# EAGLE library part XCV300ES_FG456 (library xilinx-xcv)
xcv300es_fg456 edit this description Auto generated by make-symbol-device-package-bsdl.ulp Rev. 26 Source: xcv300es_fg456.bsd
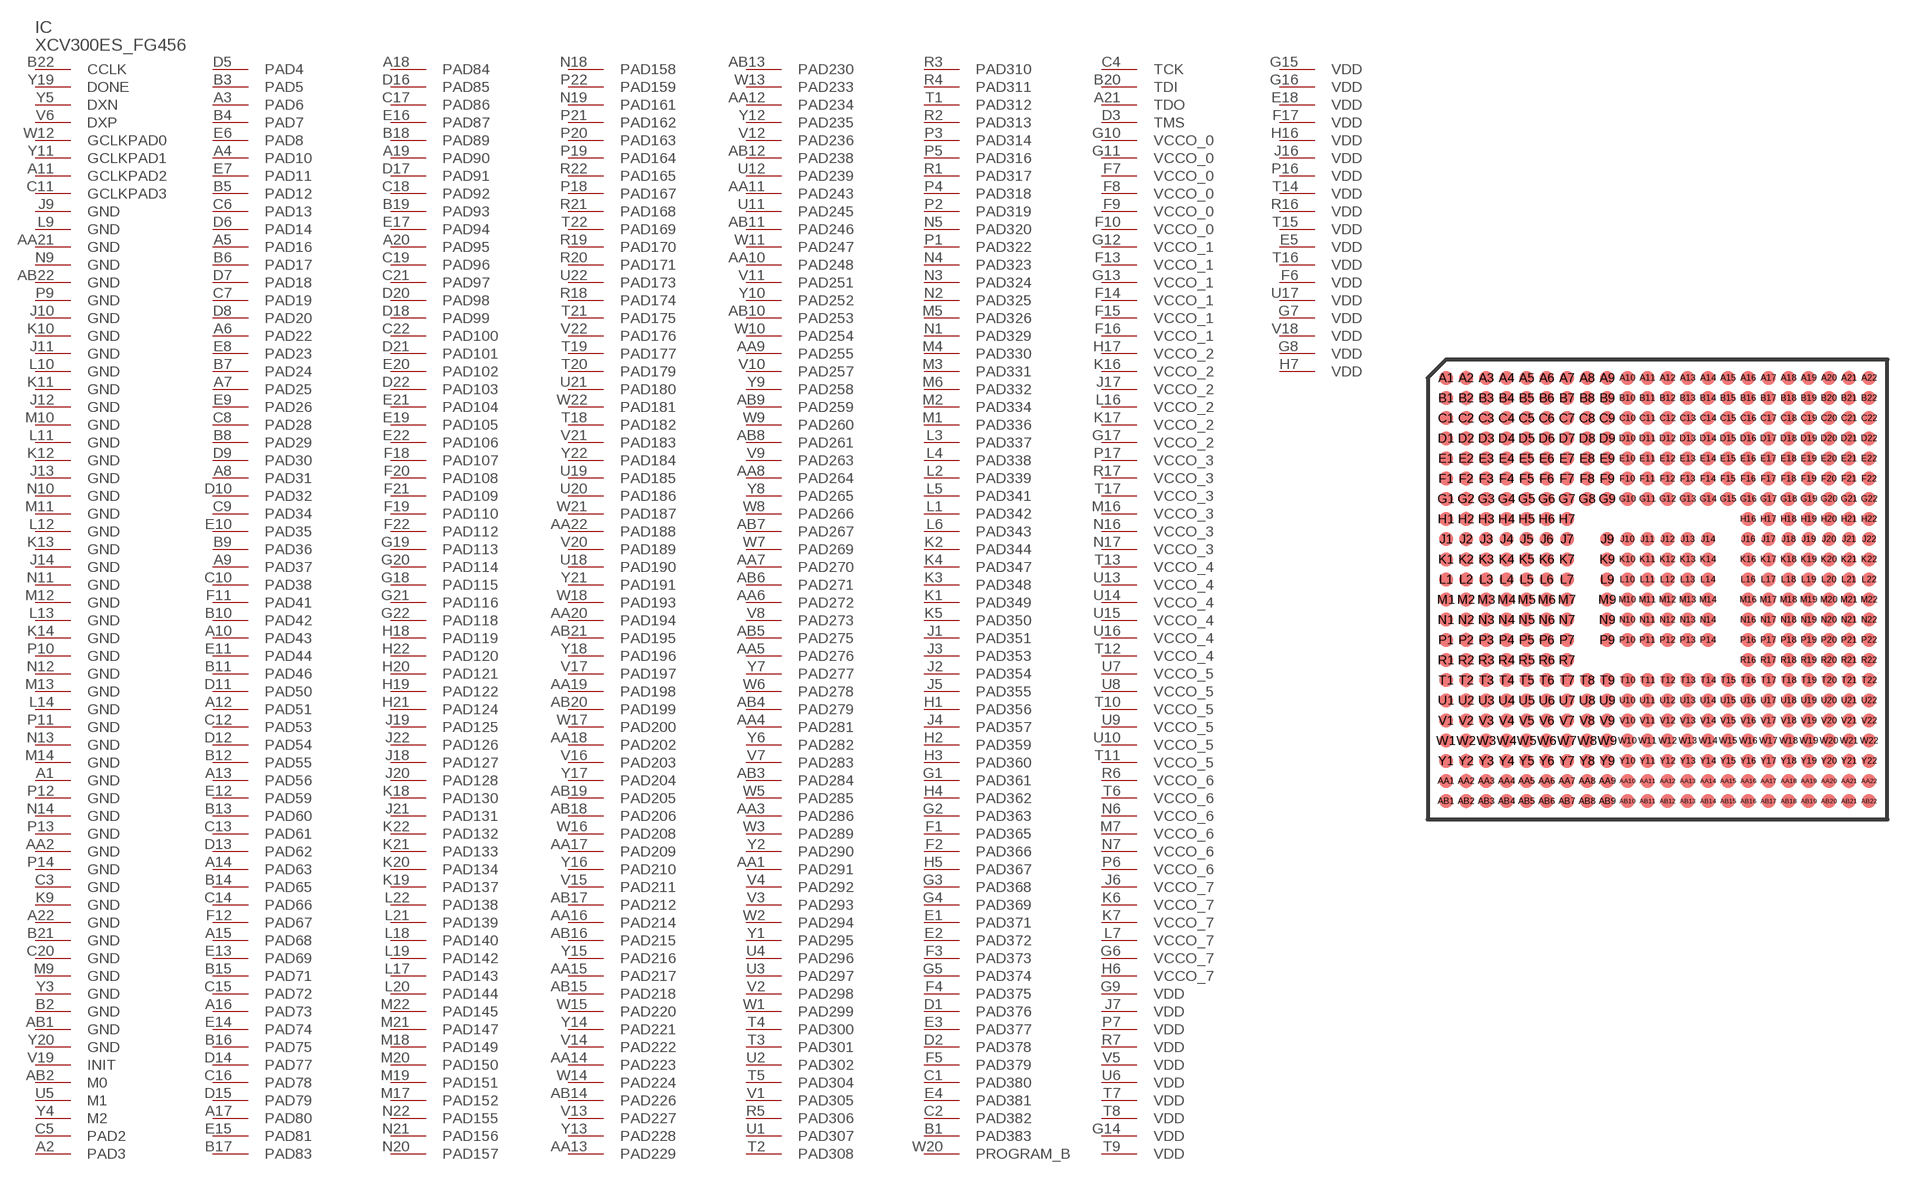
[diagram p92: symbol with the pads of FG456; footprint FG456]

Designator prefix IC

## XCV300ES_FG456 (OC_FARNELL: unknown; OC_NEWARK: unknown)  [FG456]
A1  GND  pwr
A2  PAD3
A3  PAD6
A4  PAD10
A5  PAD16
A6  PAD22
A7  PAD25
A8  PAD31
A9  PAD37
A10  PAD43
A11  GCLKPAD2  in
A12  PAD51
A13  PAD56
A14  PAD63
A15  PAD68
A16  PAD73
A17  PAD80
A18  PAD84
A19  PAD90
A20  PAD95
A21  TDO  out
A22  GND  pwr
AA1  PAD291
AA2  GND  pwr
AA3  PAD286
AA4  PAD281
AA5  PAD276
AA6  PAD272
AA7  PAD270
AA8  PAD264
AA9  PAD255
AA10  PAD248
AA11  PAD243
AA12  PAD234
AA13  PAD229
AA14  PAD223
AA15  PAD217
AA16  PAD214
AA17  PAD209
AA18  PAD202
AA19  PAD198
AA20  PAD194
AA21  GND  pwr
AA22  PAD188
AB1  GND  pwr
AB2  M0  in
AB3  PAD284
AB4  PAD279
AB5  PAD275
AB6  PAD271
AB7  PAD267
AB8  PAD261
AB9  PAD259
AB10  PAD253
AB11  PAD246
AB12  PAD238
AB13  PAD230
AB14  PAD226
AB15  PAD218
AB16  PAD215
AB17  PAD212
AB18  PAD206
AB19  PAD205
AB20  PAD199
AB21  PAD195
AB22  GND  pwr
B1  PAD383
B2  GND  pwr
B3  PAD5
B4  PAD7
B5  PAD12
B6  PAD17
B7  PAD24
B8  PAD29
B9  PAD36
B10  PAD42
B11  PAD46
B12  PAD55
B13  PAD60
B14  PAD65
B15  PAD71
B16  PAD75
B17  PAD83
B18  PAD89
B19  PAD93
B20  TDI  in
B21  GND  pwr
B22  CCLK
C1  PAD380
C2  PAD382
C3  GND  pwr
C4  TCK  in
C5  PAD2
C6  PAD13
C7  PAD19
C8  PAD28
C9  PAD34
C10  PAD38
C11  GCLKPAD3  in
C12  PAD53
C13  PAD61
C14  PAD66
C15  PAD72
C16  PAD78
C17  PAD86
C18  PAD92
C19  PAD96
C20  GND  pwr
C21  PAD97
C22  PAD100
D1  PAD376
D2  PAD378
D3  TMS  in
D5  PAD4
D6  PAD14
D7  PAD18
D8  PAD20
D9  PAD30
D10  PAD32
D11  PAD50
D12  PAD54
D13  PAD62
D14  PAD77
D15  PAD79
D16  PAD85
D17  PAD91
D18  PAD99
D20  PAD98
D21  PAD101
D22  PAD103
E1  PAD371
E2  PAD372
E3  PAD377
E4  PAD381
E5  VDD  pwr
E6  PAD8
E7  PAD11
E8  PAD23
E9  PAD26
E10  PAD35
E11  PAD44
E12  PAD59
E13  PAD69
E14  PAD74
E15  PAD81
E16  PAD87
E17  PAD94
E18  VDD  pwr
E19  PAD105
E20  PAD102
E21  PAD104
E22  PAD106
F1  PAD365
F2  PAD366
F3  PAD373
F4  PAD375
F5  PAD379
F6  VDD  pwr
F7  VCCO_0  pwr
F8  VCCO_0  pwr
F9  VCCO_0  pwr
F10  VCCO_0  pwr
F11  PAD41
F12  PAD67
F13  VCCO_1  pwr
F14  VCCO_1  pwr
F15  VCCO_1  pwr
F16  VCCO_1  pwr
F17  VDD  pwr
F18  PAD107
F19  PAD110
F20  PAD108
F21  PAD109
F22  PAD112
G1  PAD361
G2  PAD363
G3  PAD368
G4  PAD369
G5  PAD374
G6  VCCO_7  pwr
G7  VDD  pwr
G8  VDD  pwr
G9  VDD  pwr
G10  VCCO_0  pwr
G11  VCCO_0  pwr
G12  VCCO_1  pwr
G13  VCCO_1  pwr
G14  VDD  pwr
G15  VDD  pwr
G16  VDD  pwr
G17  VCCO_2  pwr
G18  PAD115
G19  PAD113
G20  PAD114
G21  PAD116
G22  PAD118
H1  PAD356
H2  PAD359
H3  PAD360
H4  PAD362
H5  PAD367
H6  VCCO_7  pwr
H7  VDD  pwr
H16  VDD  pwr
H17  VCCO_2  pwr
H18  PAD119
H19  PAD122
H20  PAD121
H21  PAD124
H22  PAD120
J1  PAD351
J2  PAD354
J3  PAD353
J4  PAD357
J5  PAD355
J6  VCCO_7  pwr
J7  VDD  pwr
J9  GND  pwr
J10  GND  pwr
J11  GND  pwr
J12  GND  pwr
J13  GND  pwr
J14  GND  pwr
J16  VDD  pwr
J17  VCCO_2  pwr
J18  PAD127
J19  PAD125
J20  PAD128
J21  PAD131
J22  PAD126
K1  PAD349
K2  PAD344
K3  PAD348
K4  PAD347
K5  PAD350
K6  VCCO_7  pwr
K7  VCCO_7  pwr
K9  GND  pwr
K10  GND  pwr
K11  GND  pwr
K12  GND  pwr
K13  GND  pwr
K14  GND  pwr
K16  VCCO_2  pwr
K17  VCCO_2  pwr
K18  PAD130
K19  PAD137
K20  PAD134
K21  PAD133
K22  PAD132
L1  PAD342
L2  PAD339
L3  PAD337
L4  PAD338
L5  PAD341
L6  PAD343
L7  VCCO_7  pwr
L9  GND  pwr
L10  GND  pwr
L11  GND  pwr
L12  GND  pwr
L13  GND  pwr
L14  GND  pwr
L16  VCCO_2  pwr
L17  PAD143
L18  PAD140
L19  PAD142
L20  PAD144
L21  PAD139
L22  PAD138
M1  PAD336
M2  PAD334
M3  PAD331
M4  PAD330
M5  PAD326
M6  PAD332
M7  VCCO_6  pwr
M9  GND  pwr
M10  GND  pwr
M11  GND  pwr
M12  GND  pwr
M13  GND  pwr
M14  GND  pwr
M16  VCCO_3  pwr
M17  PAD152
M18  PAD149
M19  PAD151
M20  PAD150
M21  PAD147
M22  PAD145
N1  PAD329
N2  PAD325
N3  PAD324
N4  PAD323
N5  PAD320
N6  VCCO_6  pwr
N7  VCCO_6  pwr
N9  GND  pwr
N10  GND  pwr
N11  GND  pwr
N12  GND  pwr
N13  GND  pwr
N14  GND  pwr
N16  VCCO_3  pwr
N17  VCCO_3  pwr
N18  PAD158
N19  PAD161
N20  PAD157
N21  PAD156
N22  PAD155
P1  PAD322
P2  PAD319
P3  PAD314
P4  PAD318
P5  PAD316
P6  VCCO_6  pwr
P7  VDD  pwr
P9  GND  pwr
P10  GND  pwr
P11  GND  pwr
P12  GND  pwr
P13  GND  pwr
P14  GND  pwr
P16  VDD  pwr
P17  VCCO_3  pwr
P18  PAD167
P19  PAD164
P20  PAD163
P21  PAD162
P22  PAD159
R1  PAD317
R2  PAD313
R3  PAD310
R4  PAD311
R5  PAD306
R6  VCCO_6  pwr
R7  VDD  pwr
R16  VDD  pwr
R17  VCCO_3  pwr
R18  PAD174
R19  PAD170
R20  PAD171
R21  PAD168
R22  PAD165
T1  PAD312
T2  PAD308
T3  PAD301
T4  PAD300
T5  PAD304
T6  VCCO_6  pwr
T7  VDD  pwr
T8  VDD  pwr
T9  VDD  pwr
T10  VCCO_5  pwr
T11  VCCO_5  pwr
T12  VCCO_4  pwr
T13  VCCO_4  pwr
T14  VDD  pwr
T15  VDD  pwr
T16  VDD  pwr
T17  VCCO_3  pwr
T18  PAD182
T19  PAD177
T20  PAD179
T21  PAD175
T22  PAD169
U1  PAD307
U2  PAD302
U3  PAD297
U4  PAD296
U5  M1  in
U6  VDD  pwr
U7  VCCO_5  pwr
U8  VCCO_5  pwr
U9  VCCO_5  pwr
U10  VCCO_5  pwr
U11  PAD245
U12  PAD239
U13  VCCO_4  pwr
U14  VCCO_4  pwr
U15  VCCO_4  pwr
U16  VCCO_4  pwr
U17  VDD  pwr
U18  PAD190
U19  PAD185
U20  PAD186
U21  PAD180
U22  PAD173
V1  PAD305
V2  PAD298
V3  PAD293
V4  PAD292
V5  VDD  pwr
V6  DXP  pas
V7  PAD283
V8  PAD273
V9  PAD263
V10  PAD257
V11  PAD251
V12  PAD236
V13  PAD227
V14  PAD222
V15  PAD211
V16  PAD203
V17  PAD197
V18  VDD  pwr
V19  INIT
V20  PAD189
V21  PAD183
V22  PAD176
W1  PAD299
W2  PAD294
W3  PAD289
W5  PAD285
W6  PAD278
W7  PAD269
W8  PAD266
W9  PAD260
W10  PAD254
W11  PAD247
W12  GCLKPAD0  in
W13  PAD233
W14  PAD224
W15  PAD220
W16  PAD208
W17  PAD200
W18  PAD193
W20  PROGRAM_B  in
W21  PAD187
W22  PAD181
Y1  PAD295
Y2  PAD290
Y3  GND  pwr
Y4  M2  in
Y5  DXN  pas
Y6  PAD282
Y7  PAD277
Y8  PAD265
Y9  PAD258
Y10  PAD252
Y11  GCLKPAD1  in
Y12  PAD235
Y13  PAD228
Y14  PAD221
Y15  PAD216
Y16  PAD210
Y17  PAD204
Y18  PAD196
Y19  DONE
Y20  GND  pwr
Y21  PAD191
Y22  PAD184

## Footprint FG456 (pad centres in mm)
xcv150_fg456 edit this description Auto generated by make-symbol-device-package-bsdl.ulp Rev. 26 Source: xcv150_fg456.bsd
smd 0.7 x 0.7: A1 -10.5,10.5; A2 -9.5,10.5; A3 -8.5,10.5; A4 -7.5,10.5; A5 -6.5,10.5; A6 -5.5,10.5; A7 -4.5,10.5; A8 -3.5,10.5; A9 -2.5,10.5; A10 -1.5,10.5; A11 -0.5,10.5; A12 0.5,10.5; A13 1.5,10.5; A14 2.5,10.5; A15 3.5,10.5; A16 4.5,10.5; A17 5.5,10.5; A18 6.5,10.5; A19 7.5,10.5; A20 8.5,10.5; A21 9.5,10.5; A22 10.5,10.5; AA1 -10.5,-9.5; AA2 -9.5,-9.5; AA3 -8.5,-9.5; AA4 -7.5,-9.5; AA5 -6.5,-9.5; AA6 -5.5,-9.5; AA7 -4.5,-9.5; AA8 -3.5,-9.5; AA9 -2.5,-9.5; AA10 -1.5,-9.5; AA11 -0.5,-9.5; AA12 0.5,-9.5; AA13 1.5,-9.5; AA14 2.5,-9.5; AA15 3.5,-9.5; AA16 4.5,-9.5; AA17 5.5,-9.5; AA18 6.5,-9.5; AA19 7.5,-9.5; AA20 8.5,-9.5; AA21 9.5,-9.5; AA22 10.5,-9.5; AB1 -10.5,-10.5; AB2 -9.5,-10.5; AB3 -8.5,-10.5; AB4 -7.5,-10.5; AB5 -6.5,-10.5; AB6 -5.5,-10.5; AB7 -4.5,-10.5; AB8 -3.5,-10.5; AB9 -2.5,-10.5; AB10 -1.5,-10.5; AB11 -0.5,-10.5; AB12 0.5,-10.5; AB13 1.5,-10.5; AB14 2.5,-10.5; AB15 3.5,-10.5; AB16 4.5,-10.5; AB17 5.5,-10.5; AB18 6.5,-10.5; AB19 7.5,-10.5; AB20 8.5,-10.5; AB21 9.5,-10.5; AB22 10.5,-10.5; B1 -10.5,9.5; B2 -9.5,9.5; B3 -8.5,9.5; B4 -7.5,9.5; B5 -6.5,9.5; B6 -5.5,9.5; B7 -4.5,9.5; B8 -3.5,9.5; B9 -2.5,9.5; B10 -1.5,9.5; B11 -0.5,9.5; B12 0.5,9.5; B13 1.5,9.5; B14 2.5,9.5; B15 3.5,9.5; B16 4.5,9.5; B17 5.5,9.5; B18 6.5,9.5; B19 7.5,9.5; B20 8.5,9.5; B21 9.5,9.5; B22 10.5,9.5; C1 -10.5,8.5; C2 -9.5,8.5; C3 -8.5,8.5; C4 -7.5,8.5; C5 -6.5,8.5; C6 -5.5,8.5; C7 -4.5,8.5; C8 -3.5,8.5; C9 -2.5,8.5; C10 -1.5,8.5; C11 -0.5,8.5; C12 0.5,8.5; C13 1.5,8.5; C14 2.5,8.5; C15 3.5,8.5; C16 4.5,8.5; C17 5.5,8.5; C18 6.5,8.5; C19 7.5,8.5; C20 8.5,8.5; C21 9.5,8.5; C22 10.5,8.5; D1 -10.5,7.5; D2 -9.5,7.5; D3 -8.5,7.5; D4 -7.5,7.5; D5 -6.5,7.5; D6 -5.5,7.5; D7 -4.5,7.5; D8 -3.5,7.5; D9 -2.5,7.5; D10 -1.5,7.5; D11 -0.5,7.5; D12 0.5,7.5; D13 1.5,7.5; D14 2.5,7.5; D15 3.5,7.5; D16 4.5,7.5; D17 5.5,7.5; D18 6.5,7.5; D19 7.5,7.5; D20 8.5,7.5; D21 9.5,7.5; D22 10.5,7.5; E1 -10.5,6.5; E2 -9.5,6.5; E3 -8.5,6.5; E4 -7.5,6.5; E5 -6.5,6.5; E6 -5.5,6.5; E7 -4.5,6.5; E8 -3.5,6.5; E9 -2.5,6.5; E10 -1.5,6.5; E11 -0.5,6.5; E12 0.5,6.5; E13 1.5,6.5; E14 2.5,6.5; E15 3.5,6.5; E16 4.5,6.5; E17 5.5,6.5; E18 6.5,6.5; E19 7.5,6.5; E20 8.5,6.5; E21 9.5,6.5; E22 10.5,6.5; F1 -10.5,5.5; F2 -9.5,5.5; F3 -8.5,5.5; F4 -7.5,5.5; F5 -6.5,5.5; F6 -5.5,5.5; F7 -4.5,5.5; F8 -3.5,5.5; F9 -2.5,5.5; F10 -1.5,5.5; F11 -0.5,5.5; F12 0.5,5.5; F13 1.5,5.5; F14 2.5,5.5; F15 3.5,5.5; F16 4.5,5.5; F17 5.5,5.5; F18 6.5,5.5; F19 7.5,5.5; F20 8.5,5.5; F21 9.5,5.5; F22 10.5,5.5; G1 -10.5,4.5; G2 -9.5,4.5; G3 -8.5,4.5; G4 -7.5,4.5; G5 -6.5,4.5; G6 -5.5,4.5; G7 -4.5,4.5; G8 -3.5,4.5; G9 -2.5,4.5; G10 -1.5,4.5; G11 -0.5,4.5; G12 0.5,4.5; G13 1.5,4.5; G14 2.5,4.5; G15 3.5,4.5; G16 4.5,4.5; G17 5.5,4.5; G18 6.5,4.5; G19 7.5,4.5; G20 8.5,4.5; G21 9.5,4.5; G22 10.5,4.5; H1 -10.5,3.5; H2 -9.5,3.5; H3 -8.5,3.5; H4 -7.5,3.5; H5 -6.5,3.5; H6 -5.5,3.5; H7 -4.5,3.5; H16 4.5,3.5; H17 5.5,3.5; H18 6.5,3.5; H19 7.5,3.5; H20 8.5,3.5; H21 9.5,3.5; H22 10.5,3.5; J1 -10.5,2.5; J2 -9.5,2.5; J3 -8.5,2.5; J4 -7.5,2.5; J5 -6.5,2.5; J6 -5.5,2.5; J7 -4.5,2.5; J9 -2.5,2.5; J10 -1.5,2.5; J11 -0.5,2.5; J12 0.5,2.5; J13 1.5,2.5; J14 2.5,2.5; J16 4.5,2.5; J17 5.5,2.5; J18 6.5,2.5; J19 7.5,2.5; J20 8.5,2.5; J21 9.5,2.5; J22 10.5,2.5; K1 -10.5,1.5; K2 -9.5,1.5; K3 -8.5,1.5; K4 -7.5,1.5; K5 -6.5,1.5; K6 -5.5,1.5; K7 -4.5,1.5; K9 -2.5,1.5; K10 -1.5,1.5; K11 -0.5,1.5; K12 0.5,1.5; K13 1.5,1.5; K14 2.5,1.5; K16 4.5,1.5; K17 5.5,1.5; K18 6.5,1.5; K19 7.5,1.5; K20 8.5,1.5; K21 9.5,1.5; K22 10.5,1.5; L1 -10.5,0.5; L2 -9.5,0.5; L3 -8.5,0.5; L4 -7.5,0.5; L5 -6.5,0.5; L6 -5.5,0.5; L7 -4.5,0.5; L9 -2.5,0.5; L10 -1.5,0.5; L11 -0.5,0.5; L12 0.5,0.5; L13 1.5,0.5; L14 2.5,0.5; L16 4.5,0.5; L17 5.5,0.5; L18 6.5,0.5; L19 7.5,0.5; L20 8.5,0.5; L21 9.5,0.5; L22 10.5,0.5; M1 -10.5,-0.5; M2 -9.5,-0.5; M3 -8.5,-0.5; M4 -7.5,-0.5; M5 -6.5,-0.5; M6 -5.5,-0.5; M7 -4.5,-0.5; M9 -2.5,-0.5; M10 -1.5,-0.5; M11 -0.5,-0.5; M12 0.5,-0.5; M13 1.5,-0.5; M14 2.5,-0.5; M16 4.5,-0.5; M17 5.5,-0.5; M18 6.5,-0.5; M19 7.5,-0.5; M20 8.5,-0.5; M21 9.5,-0.5; M22 10.5,-0.5; N1 -10.5,-1.5; N2 -9.5,-1.5; N3 -8.5,-1.5; N4 -7.5,-1.5; N5 -6.5,-1.5; N6 -5.5,-1.5; N7 -4.5,-1.5; N9 -2.5,-1.5; N10 -1.5,-1.5; N11 -0.5,-1.5; N12 0.5,-1.5; N13 1.5,-1.5; N14 2.5,-1.5; N16 4.5,-1.5; N17 5.5,-1.5; N18 6.5,-1.5; N19 7.5,-1.5; N20 8.5,-1.5; N21 9.5,-1.5; N22 10.5,-1.5; P1 -10.5,-2.5; P2 -9.5,-2.5; P3 -8.5,-2.5; P4 -7.5,-2.5; P5 -6.5,-2.5; P6 -5.5,-2.5; P7 -4.5,-2.5; P9 -2.5,-2.5; P10 -1.5,-2.5; P11 -0.5,-2.5; P12 0.5,-2.5; P13 1.5,-2.5; P14 2.5,-2.5; P16 4.5,-2.5; P17 5.5,-2.5; P18 6.5,-2.5; P19 7.5,-2.5; P20 8.5,-2.5; P21 9.5,-2.5; P22 10.5,-2.5; R1 -10.5,-3.5; R2 -9.5,-3.5; R3 -8.5,-3.5; R4 -7.5,-3.5; R5 -6.5,-3.5; R6 -5.5,-3.5; R7 -4.5,-3.5; R16 4.5,-3.5; R17 5.5,-3.5; R18 6.5,-3.5; R19 7.5,-3.5; R20 8.5,-3.5; R21 9.5,-3.5; R22 10.5,-3.5; T1 -10.5,-4.5; T2 -9.5,-4.5; T3 -8.5,-4.5; T4 -7.5,-4.5; T5 -6.5,-4.5; T6 -5.5,-4.5; T7 -4.5,-4.5; T8 -3.5,-4.5; T9 -2.5,-4.5; T10 -1.5,-4.5; T11 -0.5,-4.5; T12 0.5,-4.5; T13 1.5,-4.5; T14 2.5,-4.5; T15 3.5,-4.5; T16 4.5,-4.5; T17 5.5,-4.5; T18 6.5,-4.5; T19 7.5,-4.5; T20 8.5,-4.5; T21 9.5,-4.5; T22 10.5,-4.5; U1 -10.5,-5.5; U2 -9.5,-5.5; U3 -8.5,-5.5; U4 -7.5,-5.5; U5 -6.5,-5.5; U6 -5.5,-5.5; U7 -4.5,-5.5; U8 -3.5,-5.5; U9 -2.5,-5.5; U10 -1.5,-5.5; U11 -0.5,-5.5; U12 0.5,-5.5; U13 1.5,-5.5; U14 2.5,-5.5; U15 3.5,-5.5; U16 4.5,-5.5; U17 5.5,-5.5; U18 6.5,-5.5; U19 7.5,-5.5; U20 8.5,-5.5; U21 9.5,-5.5; U22 10.5,-5.5; V1 -10.5,-6.5; V2 -9.5,-6.5; V3 -8.5,-6.5; V4 -7.5,-6.5; V5 -6.5,-6.5; V6 -5.5,-6.5; V7 -4.5,-6.5; V8 -3.5,-6.5; V9 -2.5,-6.5; V10 -1.5,-6.5; V11 -0.5,-6.5; V12 0.5,-6.5; V13 1.5,-6.5; V14 2.5,-6.5; V15 3.5,-6.5; V16 4.5,-6.5; V17 5.5,-6.5; V18 6.5,-6.5; V19 7.5,-6.5; V20 8.5,-6.5; V21 9.5,-6.5; V22 10.5,-6.5; W1 -10.5,-7.5; W2 -9.5,-7.5; W3 -8.5,-7.5; W4 -7.5,-7.5; W5 -6.5,-7.5; W6 -5.5,-7.5; W7 -4.5,-7.5; W8 -3.5,-7.5; W9 -2.5,-7.5; W10 -1.5,-7.5; W11 -0.5,-7.5; W12 0.5,-7.5; W13 1.5,-7.5; W14 2.5,-7.5; W15 3.5,-7.5; W16 4.5,-7.5; W17 5.5,-7.5; W18 6.5,-7.5; W19 7.5,-7.5; W20 8.5,-7.5; W21 9.5,-7.5; W22 10.5,-7.5; Y1 -10.5,-8.5; Y2 -9.5,-8.5; Y3 -8.5,-8.5; Y4 -7.5,-8.5; Y5 -6.5,-8.5; Y6 -5.5,-8.5; Y7 -4.5,-8.5; Y8 -3.5,-8.5; Y9 -2.5,-8.5; Y10 -1.5,-8.5; Y11 -0.5,-8.5; Y12 0.5,-8.5; Y13 1.5,-8.5; Y14 2.5,-8.5; Y15 3.5,-8.5; Y16 4.5,-8.5; Y17 5.5,-8.5; Y18 6.5,-8.5; Y19 7.5,-8.5; Y20 8.5,-8.5; Y21 9.5,-8.5; Y22 10.5,-8.5